# Altium footprint library lib.PcbLib: 2 footprints
Each footprint in its own frame and in the unit in brackets; x right, y up, seen from the top. Pads: shape width x height; smd on the part's side, far side on the other; paste and mask are expansions set on the pad; w line width, h text height; cw(c..) or ccw(c..) is an arc to the next point about the centre after c.
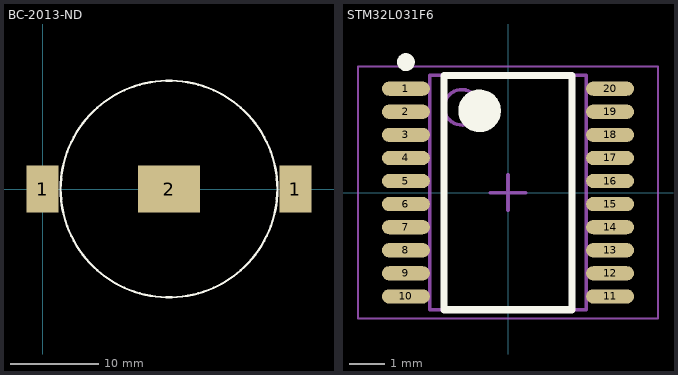
[diagram p0: the footprints below, top view; thin cyan lines are the x and y axes]

## BC-2013-ND [mm]
pads (3):
  rect 3.65x5.33 smd: 1(0,0) 1(28.57,0)
  rect 7x5.33 smd: 2(14.285,0)
Top Overlay:
  circle w0.254: c14.285,0 r12.25
3D body "BC-2013.STEP": height 3.68, standoff 0, extent -1.702,-4.762 30.302,4.763

## STM32L031F6 [mm] "TSOP, 20-Leads, Body 6,50x4,40mm, Pitch 0,65mm, IPC Medium Density"
height 1.2
pads (20):
  oval 1.35x0.4 smd: 1(-2.875,2.925) 2(-2.875,2.275) 3(-2.875,1.625) 4(-2.875,0.975) 5(-2.875,0.325) 6(-2.875,-0.325) 7(-2.875,-0.975) 8(-2.875,-1.625) 9(-2.875,-2.275) 10(-2.875,-2.925) 11(2.875,-2.925) 12(2.875,-2.275) 13(2.875,-1.625) 14(2.875,-0.975) 15(2.875,-0.325) 16(2.875,0.325) 17(2.875,0.975) 18(2.875,1.625) 19(2.875,2.275) 20(2.875,2.925)
Top Overlay:
  circle w0.25: c-2.875,3.675 r0.125
  circle w0.6: c-0.8,2.3 r0.3
  lines w0.2: -1.8,-3.3 -1.8,3.3 1.8,3.3 1.8,-3.3 -1.8,-3.3
Mechanical 13:
  circle w0.1: c-1.3,2.4 r0.5
  lines w0.1: -2.2,-3.3 -2.2,3.3 2.2,3.3 2.2,-3.3 -2.2,-3.3
Mechanical 15:
  lines w0.05: -4.225,-3.55 -4.225,3.55 4.225,3.55 4.225,-3.55 -4.225,-3.55
  lines w0.1: -0.5,0 0.5,0 ; 0,-0.5 0,0.5
3D body: height 1.2, standoff 0.15, extent -2.2,-3.3 2.2,3.3